# Altium schematic symbol library Zener.SchLib: 1 symbol
Pins are listed as number, name and electrical type; pins without a type are passive.

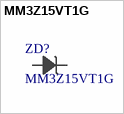
[diagram p0: symbol MM3Z15VT1G]

## MM3Z15VT1G
designator ZD?
DIODE ZENER 15V 300MW SOD323 / Zener Diode Single 15V 5% 30Ohm 300mW 2-Pin SOD-323 T/R; Manufacturer: ON Semiconductor; Designed: Ferdi; Supplier 1: Digi-Key; Manufacturer Part Number: MM3Z15VT1G; RoHS: Yes; Category: Zener Diodes; Pricing 1: 1=0,16, 10=0,112, 100=0,0605, 500=0,04756, 1000=0,03303 (USD); ComponentLink1URL: https://datasheet.ciiva.com/894/mm3z2v4t1-d-894601.pdf?src-supplier=Digi-Key; ComponentLink1Description: https://datasheet.ciiva.com/894/mm3z2v4t1-d-894601.pdf?src-supplier=Digi-Key; ComponentLink2URL: https://datasheet.ciiva.com/894/mm3z2v4t1-d-894602.pdf?src-supplier=Digi-Key; ComponentLink2Description: https://datasheet.ciiva.com/894/mm3z2v4t1-d-894602.pdf?src-supplier=Digi-Key; ComponentLink3URL: https://datasheet.ciiva.com/894/mm3z2v4t1-d-894603.pdf?src-supplier=Digi-Key; ComponentLink3Description: https://datasheet.ciiva.com/894/mm3z2v4t1-d-894603.pdf?src-supplier=Digi-Key; ComponentLink4URL: https://datasheet.ciiva.com/10630/mm3z2v4t1-d-10630217.pdf?src-supplier=Avnet; ComponentLink4Description: https://datasheet.ciiva.com/10630/mm3z2v4t1-d-10630217.pdf?src-supplier=Avnet; ComponentLink5URL: https://datasheet.ciiva.com/8026/mm3z2v4t1-d-8026728.pdf?src-supplier=Element14; ComponentLink5Description: https://datasheet.ciiva.com/8026/mm3z2v4t1-d-8026728.pdf?src-supplier=Element14; ComponentLink6URL: https://datasheet.ciiva.com/22626/1876691-22626888.pdf?src-supplier=Element14; ComponentLink6Description: https://datasheet.ciiva.com/22626/1876691-22626888.pdf?src-supplier=Element14; ComponentLink7URL: https://datasheet.ciiva.com/18434/70100601-18434790.pdf?src-supplier=Allied+Electronics; ComponentLink7Description: https://datasheet.ciiva.com/18434/70100601-18434790.pdf?src-supplier=Allied+Electronics; Supplier Part Number 1: MM3Z15VT1GOSCT-ND
footprint SOD-323
pins: 1 A, 2 K